# Altium footprint library PcbLib.PcbLib: 34 footprints (part 2 of 3)
Each footprint in its own frame and in the unit in brackets; x right, y up, seen from the top. Pads: shape width x height; smd on the part's side, far side on the other; paste and mask are expansions set on the pad; w line width, h text height; cw(c..) or ccw(c..) is an arc to the next point about the centre after c.
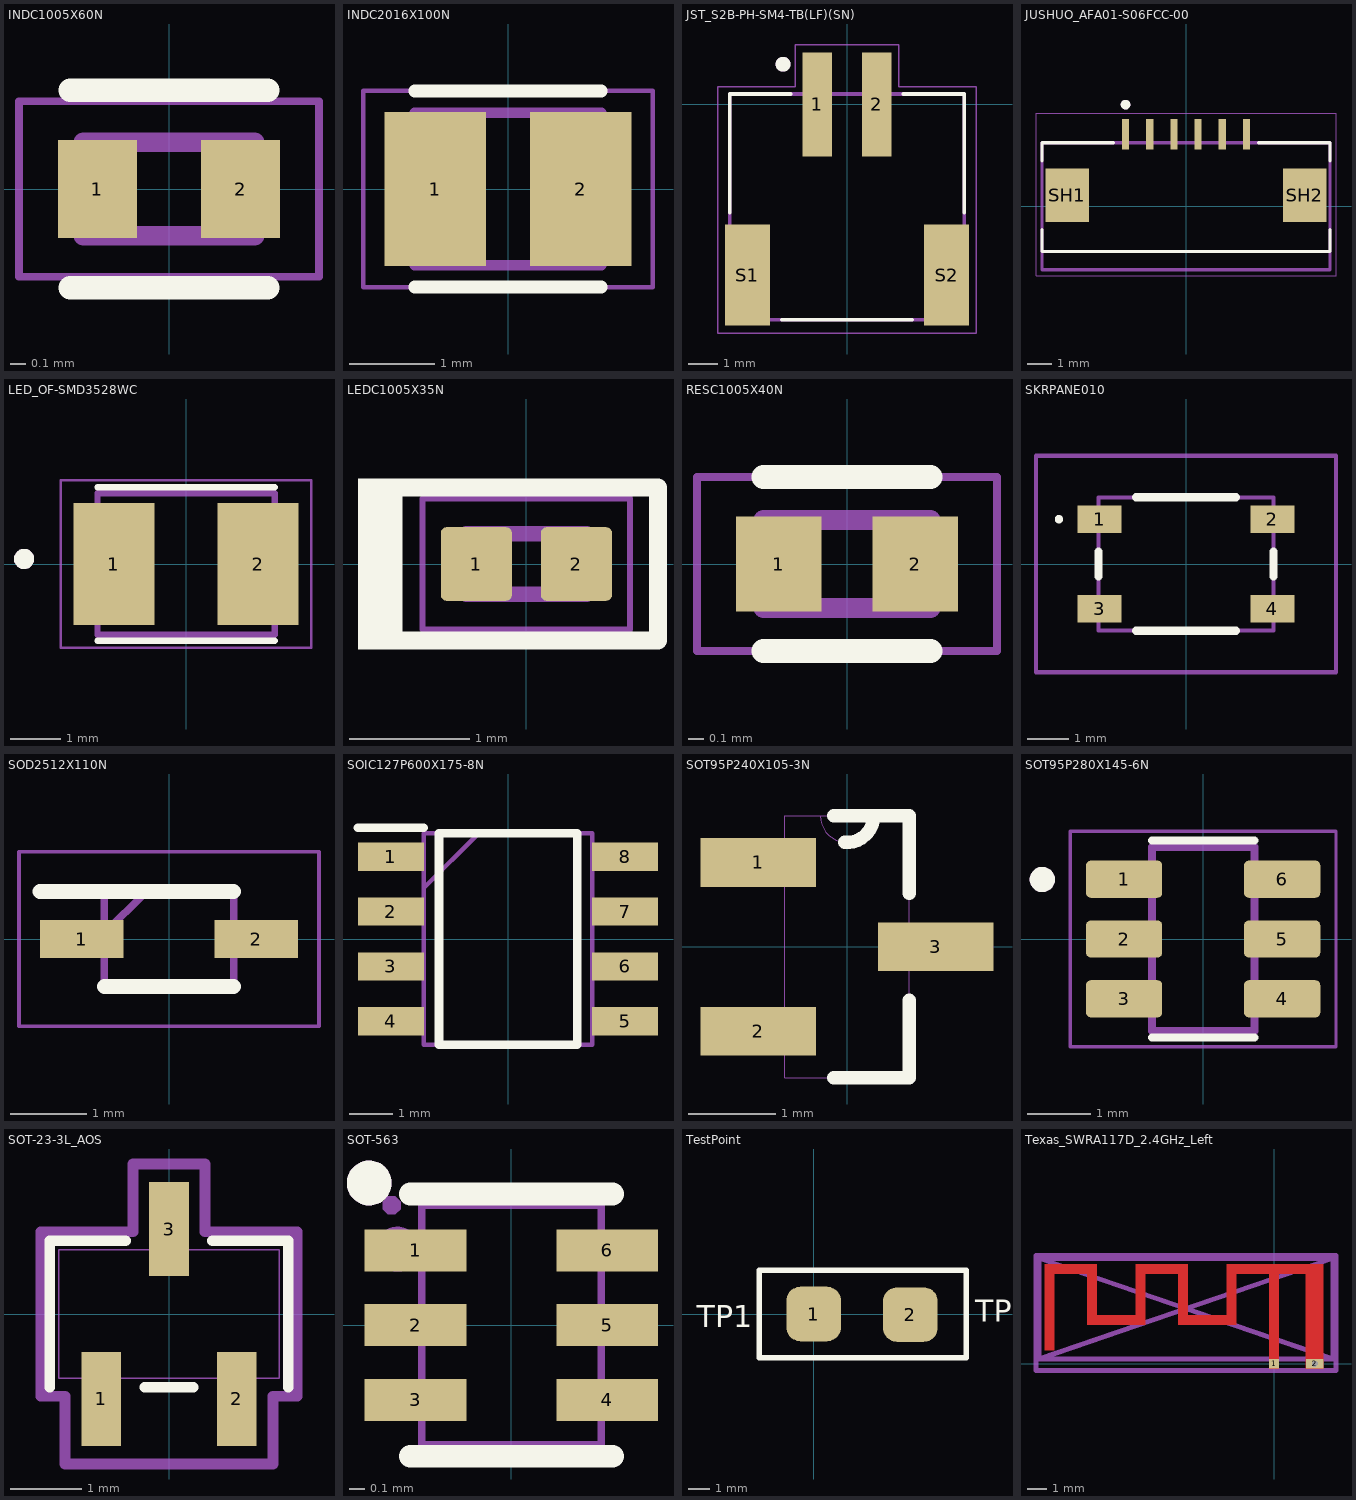
[diagram p1: the footprints below, top view; thin cyan lines are the x and y axes]

## INDC1005X60N [mm]
pads (2):
  rect 0.51x0.63 smd: 1(-0.46,0) 2(0.46,0)
Top Overlay:
  lines w0.152: -0.635,-0.635 0.635,-0.635 ; -0.635,0.635 0.635,0.635
Top 3D Body:
  lines w0.127: -0.55,-0.3 0.55,-0.3 0.55,0.3 -0.55,0.3 -0.55,-0.3
Top Courtyard:
  lines w0.05: -0.965,-0.565 0.965,-0.565 0.965,0.565 -0.965,0.565 -0.965,-0.565
3D body "INDC1005X60N.step": height 0.6, standoff 0, extent -0.5,-0.25 0.5,0.25

## INDC2016X100N [mm]
pads (2):
  rect 1.2x1.82 smd: 1(-0.86,0) 2(0.86,0)
Top Overlay:
  lines w0.152: -1.1,-1.158 1.1,-1.158 ; -1.1,1.158 1.1,1.158
Top 3D Body:
  lines w0.127: -1.1,-0.9 -1.1,0.9 1.1,0.9 1.1,-0.9 -1.1,-0.9
Top Courtyard:
  lines w0.05: -1.708,-1.158 -1.708,1.158 1.708,1.158 1.708,-1.158 -1.708,-1.158
3D body "step_temp.STEP": height 1, standoff 0, extent -1,-0.8 1,0.8

## JST_S2B-PH-SM4-TB(LF)(SN) [mm]
pads (4):
  rect 1x3.5 smd: 1(-1,0) 2(1,0)
  rect 1.5x3.4 smd: S1(-3.35,-5.75) S2(3.35,-5.75)
Top Overlay:
  circle w0.3: c-2.15,1.35 r0.1
  lines w0.127: -3.95,-3.65 -3.95,0.35 -1.9,0.35 ; -2.2,-7.25 2.2,-7.25 ; 1.9,0.35 3.95,0.35 3.95,-3.65
Top 3D Body:
  circle w0.3: c-2.15,1.35 r0.1
  lines w0.127: -3.95,-7.25 3.95,-7.25 3.95,0.35 -3.95,0.35 -3.95,-7.25
Top Courtyard:
  lines w0.05: -4.35,-7.7 4.35,-7.7 4.35,0.6 1.75,0.6 1.75,2 -1.75,2 -1.75,0.6 -4.35,0.6 -4.35,-7.7
3D body "step_temp.STEP": height 5.5, standoff -0.1, extent -3.95,-7.366 3.95,1.234

## JUSHUO_AFA01-S06FCC-00 [mm]
height 2
pads (8):
  rect 0.3x1.25 smd: 1(-2.5,2.975) 2(-1.5,2.975) 3(-0.5,2.975) 4(0.5,2.975) 5(1.5,2.975) 6(2.5,2.975)
  rect 1.8x2.2 smd: SH1(-4.9,0.45) SH2(4.9,0.45)
Top Overlay:
  circle w0.2: c-2.5,4.2 r0.1
  lines w0.127: -5.95,-0.97 -5.95,-1.875 5.95,-1.875 5.95,-0.97 ; -5.95,1.87 -5.95,2.625 -3,2.625 ; 3,2.625 5.95,2.625 5.95,1.87
Top 3D Body:
  circle w0.2: c-2.5,4.2 r0.1
  lines w0.127: -5.95,-1.875 -5.95,-2.625 5.95,-2.625 5.95,-1.875 ; -5.95,-1.875 -5.95,2.625 5.95,2.625 5.95,-1.875 ; -5.95,-1.875 5.95,-1.875
Top Courtyard:
  lines w0.05: -6.2,-2.875 -6.2,3.85 6.2,3.85 6.2,-2.875 -6.2,-2.875
3D body "step_temp.STEP": height 2, standoff 0, extent -5.95,-3.35 5.95,2.6

## LED_OF-SMD3528WC [mm]
height 2.15
pads (2):
  rect 1.6x2.4 smd: 1(-1.425,0) 2(1.425,0)
Top Overlay:
  circle w0.2: c-3.2,0.1 r0.1
  lines w0.127: -1.75,-1.513 1.75,-1.513 ; -1.75,1.513 1.75,1.513
Top 3D Body:
  circle w0.2: c-3.2,0.1 r0.1
  lines w0.127: -1.75,-1.4 1.75,-1.4 1.75,1.4 -1.75,1.4 -1.75,-1.4
Top Courtyard:
  lines w0.05: -2.475,-1.65 2.475,-1.65 2.475,1.65 -2.475,1.65 -2.475,-1.65
3D body "step_temp.STEP": height 1.9, standoff 0, extent -1.75,-1.4 1.75,1.4

## LEDC1005X35N [mm]
pads (2):
  rrect15% 0.59x0.61 smd: 1(-0.415,0) 2(0.415,0)
Top Overlay:
  rectangle: -1.397,-0.711 -1.027,0.711
  lines w0.152: -1.295,-0.635 1.092,-0.635 1.092,0.635 -1.295,0.635
Top 3D Body:
  lines w0.127: -0.5,-0.25 -0.5,0.25 0.5,0.25 0.5,-0.25 -0.5,-0.25
Top Courtyard:
  lines w0.05: -0.86,-0.545 -0.86,0.545 0.86,0.545 0.86,-0.545 -0.86,-0.545
3D body "User Library-LED_1006_G.STEP": height 0.21, standoff 0.01, extent -0.5,-0.3 0.5,0.3

## RESC1005X40N [mm]
pads (2):
  rect 0.54x0.6 smd mask+0.051: 1(-0.432,0) 2(0.432,0)
Top Overlay:
  lines w0.152: -0.53,-0.55 0.53,-0.55 ; -0.53,0.55 0.53,0.55
Top 3D Body:
  lines w0.127: -0.53,-0.28 -0.53,0.28 0.53,0.28 0.53,-0.28 -0.53,-0.28
Top Courtyard:
  lines w0.05: -0.95,-0.55 -0.95,0.55 0.95,0.55 0.95,-0.55 -0.95,-0.55
3D body "step_temp.STEP": height 0.4, standoff 0, extent -0.5,-0.25 0.5,0.25

## SKRPANE010 [mm]
pads (4):
  rect 1.05x0.65 smd mask+0.051: 1(-2.075,1.075) 2(2.075,1.075) 3(-2.075,-1.075) 4(2.075,-1.075)
Top Overlay:
  lines w0.1: -3.1,1.075 cw(c-3.05,1.075) -3,1.075 cw(c-3.05,1.075) -3.1,1.075
  lines w0.2: -2.1,-0.3 -2.1,0.3 ; -1.2,-1.6 1.2,-1.6 ; -1.2,1.6 1.2,1.6 ; 2.1,-0.3 2.1,0.3
Top Courtyard:
  lines w0.1: -2.1,-1.6 2.1,-1.6 2.1,1.6 -2.1,1.6 -2.1,-1.6
Bottom Assembly:
  lines w0.1: -3.6,-2.6 3.6,-2.6 3.6,2.6 -3.6,2.6 -3.6,-2.6
3D body "SKRPANE010.stp": height 2.5, standoff 0, extent -2.3,-1.6 2.3,1.6

## SOD2512X110N [mm]
pads (2):
  rect 1.1x0.5 smd: 1(-1.15,0) 2(1.15,0)
Top Overlay:
  lines w0.2: -1.7,0.625 0.85,0.625 ; -0.85,-0.625 0.85,-0.625
Top Courtyard:
  lines w0.1: -0.85,0.075 -0.3,0.625 ; -0.85,-0.625 0.85,-0.625 0.85,0.625 -0.85,0.625 -0.85,-0.625
Bottom Assembly:
  lines w0.05: -1.975,-1.15 1.975,-1.15 1.975,1.15 -1.975,1.15 -1.975,-1.15
3D body "PMEG4010BEA,115.stp": height 0.91, standoff -0.02, extent -1.244,-0.635 1.244,0.615

## SOIC127P600X175-8N [mm]
pads (8):
  rect 1.525x0.65 smd: 1(-2.712,1.905) 2(-2.712,0.635) 3(-2.712,-0.635) 4(-2.712,-1.905) 5(2.712,-1.905) 6(2.712,-0.635) 7(2.712,0.635) 8(2.712,1.905)
Top Overlay:
  lines w0.2: -3.475,2.58 -1.95,2.58 ; -1.6,-2.45 -1.6,2.45 1.6,2.45 1.6,-2.45 -1.6,-2.45
Top Courtyard:
  lines w0.1: -1.95,1.18 -0.68,2.45 ; -1.95,-2.45 -1.95,2.45 1.95,2.45 1.95,-2.45 -1.95,-2.45
3D body "GD25Q64ETIGR.stp": height 1.75, standoff 0, extent -3,-2.45 3,2.45

## SOT95P240X105-3N [mil]
pads (3):
  rect 52x22 smd: 1(-40,38) 2(-40,-38) 3(40,0)
Top Overlay:
  lines w6: -6,-59 28,-59 28,-24 ; -6,59 12,59 28,59 28,24 ; -1.04,47 ccw(c0,58.96) 12,58.96
Top 3D Body:
  lines w0: -28,-48 -49,-48 -49,-28 -28,-28 ; -28,-48 -28,-28 ; -28,-48 -28,-59 28,-59 28,-10 ; -28,-28 -28,28 ; -28,28 -49,28 -49,48 -28,48 ; -28,28 -28,48 ; -28,48 -28,59 -12,59 ; -12,59 ccw(c0,59) 12,59 ; -12,59 12,59 ; 12,59 28,59 28,10 ; 28,-10 49,-10 49,10 28,10 ; 28,-10 28,10
3D body "step_temp.STEP": height 44.88, standoff 0, extent -47.24,-57.09 47.24,57.09

## SOT95P280X145-6N [mm] "TVS"
pads (6):
  rrect25% 1.21x0.59 smd: 1(-1.255,0.95) 2(-1.255,0) 3(-1.255,-0.95) 4(1.255,-0.95) 5(1.255,0) 6(1.255,0.95)
Top Overlay:
  circle w0.2: c-2.555,0.945 r0.1
  lines w0.127: -0.813,-1.565 0.813,-1.565 ; -0.813,1.565 0.813,1.565
Top 3D Body:
  circle w0.2: c-2.555,0.945 r0.1
  lines w0.127: -0.813,-1.462 -0.813,1.462 0.813,1.462 0.813,-1.462 -0.813,-1.462
Top Courtyard:
  lines w0.05: -2.11,-1.713 2.11,-1.713 2.11,1.713 -2.11,1.713 -2.11,-1.713
3D body "step_temp.STEP": height 1.42, standoff -0.03, extent -1.4,-1.462 1.4,1.462

## SOT-23-3L_AOS [mil] "AO3407A"
pads (3):
  rect 22x52 smd paste+0 mask+0: 1(-37.5,-47) 2(37.5,-47) 3(0,47)
Top Overlay:
  lines w6: -66,-40.5 -66,40.5 -24.1,40.5 ; -13.4,-40.5 13.4,-40.5 ; 24.1,40.5 66,40.5 66,-40.5
Top 3D Body:
  lines w1: -61,-35.5 61,-35.5 61,35.5 -61,35.5 -61,-35.5 ; -47.5,-59 -47.5,-35.5 -27.5,-35.5 -27.5,-59 -47.5,-59 ; -10,35.5 10,35.5 10,59 -10,59 -10,35.5 ; 27.5,-59 27.5,-35.5 47.5,-35.5 47.5,-59 27.5,-59
Top Courtyard:
  lines w6: -71,-45.5 -71,45.5 -20,45.5 -20,83 20,83 20,45.5 71,45.5 71,-45.5 57.5,-45.5 57.5,-83 -57.5,-83 -57.5,-45.5 -71,-45.5
3D body "SOT-23-3L_AOS.step": height 49.09, standoff 0, extent -60.98,-59.02 60.98,59.02

## SOT-563 [mm] "1.8V to 5.5V, 600mA, 275nA Iq Small Step-Down Converter"
pads (6):
  rect 0.68x0.28 smd: 1(-0.64,0.5) 2(-0.64,0) 3(-0.64,-0.5) 4(0.64,-0.5) 5(0.64,0) 6(0.64,0.5)
Top Overlay:
  circle w0.15: c-0.95,0.95 r0.075
  lines w0.152: -0.676,-0.876 0.676,-0.876 ; -0.676,0.876 0.676,0.876
Mechanical 6:
  circle w0.15: c-0.762,0.508 r0.075
  circle w0.15: c-0.95,0.95 r0.075
Top Courtyard:
  region: -0.86,0.8 -0.86,0.825 -0.825,0.86 -0.775,0.86 -0.74,0.825 -0.74,0.8 -0.74,0.775 -0.775,0.74 -0.825,0.74 -0.86,0.775
  region: -0.8,0.395 -0.5,0.395 -0.5,0.605 -0.8,0.605
  region: -0.8,-0.105 -0.5,-0.105 -0.5,0.105 -0.8,0.105
  region: -0.8,-0.605 -0.5,-0.605 -0.5,-0.395 -0.8,-0.395
  region: 0.8,-0.605 0.5,-0.605 0.5,-0.395 0.8,-0.395
  region: 0.8,-0.105 0.5,-0.105 0.5,0.105 0.8,0.105
  region: 0.8,0.395 0.5,0.395 0.5,0.605 0.8,0.605
  lines w0.051: -0.6,-0.8 0.6,-0.8 0.6,0.8 -0.6,0.8 -0.6,-0.8
3D body "TPS628438DRLR.stp": height 0.6, standoff 0, extent -0.8,-0.8 0.8,0.8

## TestPoint [mm]
pads (2):
  rrect50% 2.54x2.54 smd: 1(0,0) 2(4.502,-0.026)
Top Overlay:
  lines w0.254: -2.54,-2.032 7.112,-2.032 7.112,2.032 -2.54,2.032 -2.54,-2.032
  text "TP2" at 7.518,-0.356 h1.02
  text "TP1" at -5.436,-0.61 h1.02

## Texas_SWRA117D_2.4GHz_Left [mm]
pads (2):
  rect 0.5x0.5 smd: 1(0,0)
  rect 0.9x0.5 hole 0.3: 2(2.1,0)
Top Layer:
  region: 2.55,-0.007 2.55,-0.25 1.65,-0.25 1.65,4.65 0.25,4.65 0.25,-0.25 -0.25,-0.25 -0.25,4.65 -1.95,4.65 -1.95,2.01 -4.95,2.01 -4.95,4.65 -6.65,4.65 -6.65,2.01 -9.65,2.01 -9.65,4.65 -11.35,4.65 -11.35,0.71 -11.85,0.71 -11.85,5.15 -9.15,5.15 -9.15,2.51 -7.15,2.51 -7.15,5.15 -4.45,5.15 -4.45,2.51 -2.45,2.51 -2.45,5.15 2.55,5.15 hole: 2.107,0.148 2.058,0.141 2.012,0.121 1.977,0.089 1.96,0.056 1.952,0.008 1.958,-0.041 1.979,-0.087 2.013,-0.122 2.031,-0.132 2.077,-0.145 2.125,-0.146 2.168,-0.134 2.176,-0.13 2.214,-0.097 2.238,-0.054 2.248,-0.007 2.243,0.042 2.223,0.086 2.188,0.123 2.155,0.14
Mechanical 2:
  lines w0.254: -12.15,0.25 -12.15,5.45 ; -12.15,0.25 3.05,5.45 ; -12.15,0.25 3.05,0.25 ; -12.15,5.45 3.05,5.45 ; -12.15,5.45 3.05,0.25 ; 3.05,0.25 3.05,5.45
Mechanical 4:
  lines w0.254: -12.3,-0.35 -12.3,5.6 3.2,5.6 3.2,-0.35 -12.3,-0.35
Mechanical 6:
  lines w0.254: -12.3,-0.35 -12.3,5.6 3.2,5.6 3.2,-0.35 -12.3,-0.35
  text "'.Designator'" at -8.661,-1.422 h1